# Altium footprint library myRLC.PcbLib: 39 footprints (part 1 of 3)
Each footprint in its own frame and in the unit in brackets; x right, y up, seen from the top. Pads: shape width x height; smd on the part's side, far side on the other; paste and mask are expansions set on the pad; w line width, h text height; cw(c..) or ccw(c..) is an arc to the next point about the centre after c.
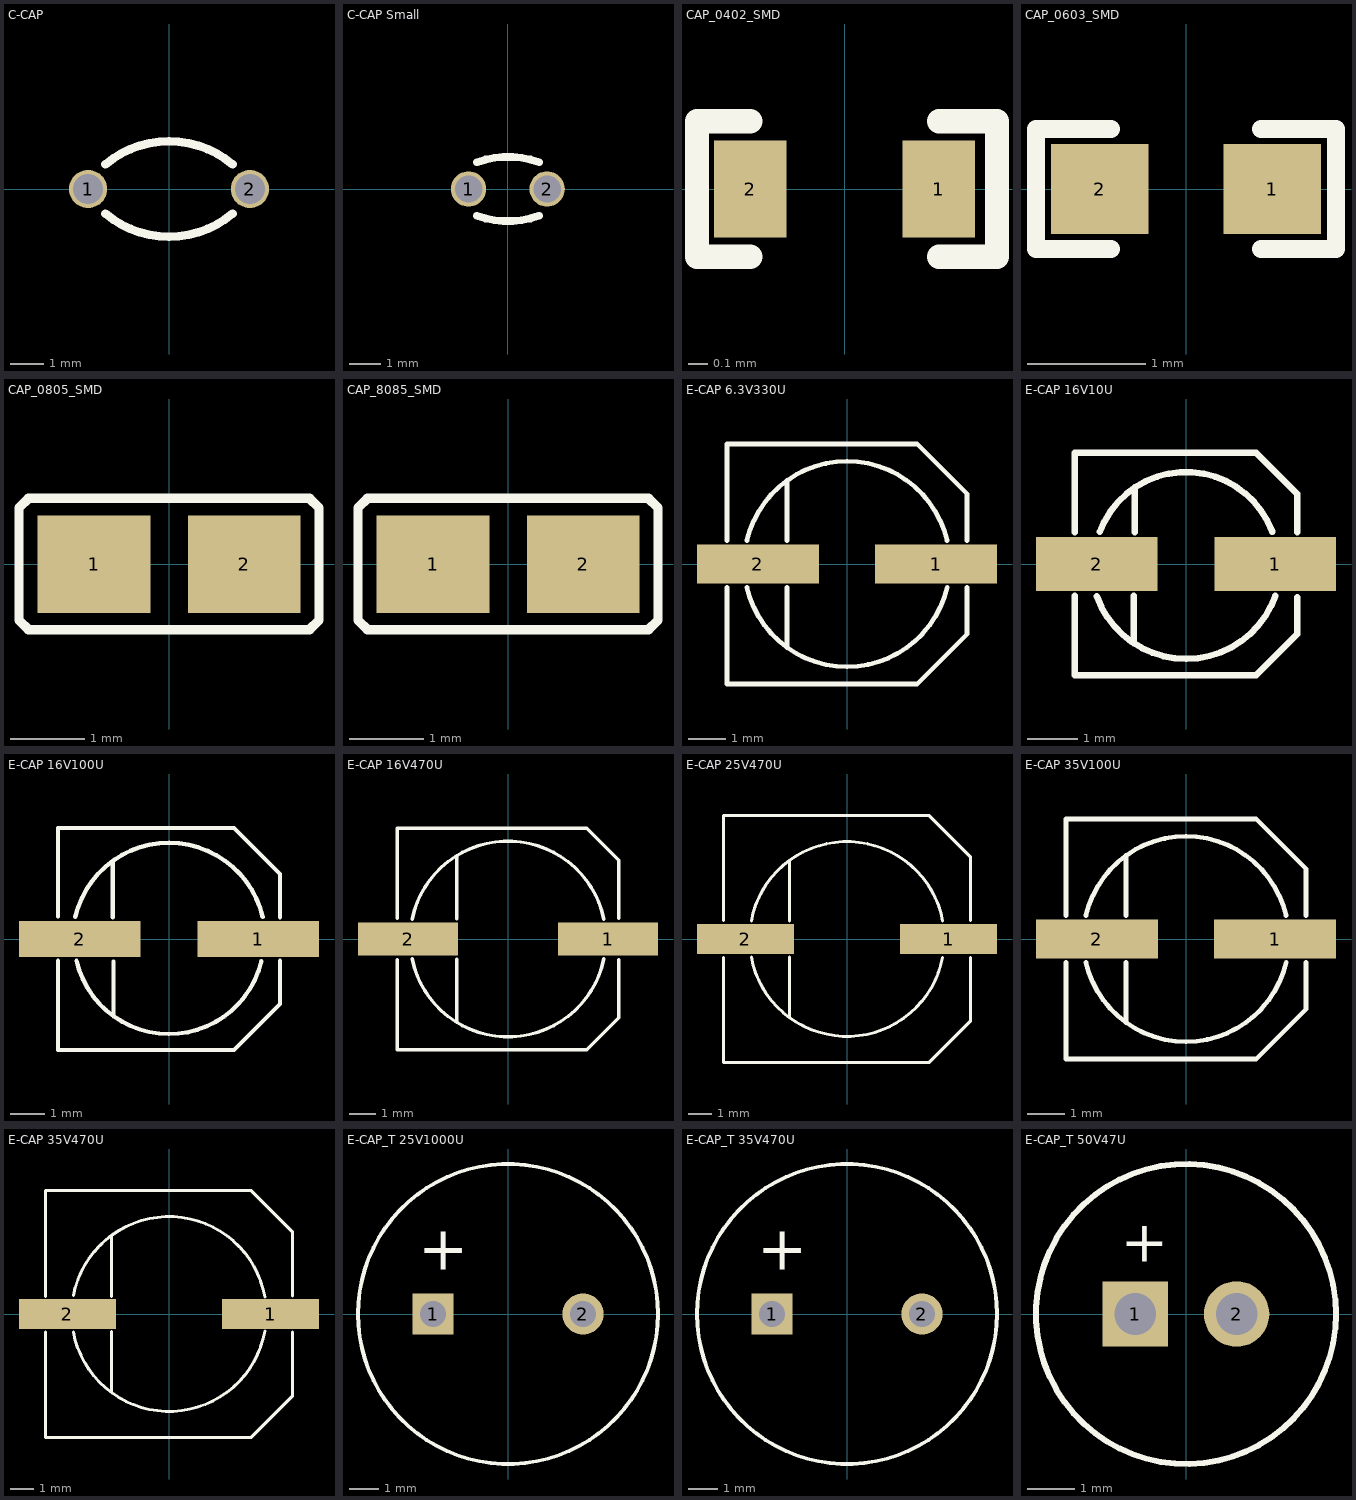
[diagram p0: the footprints below, top view; thin cyan lines are the x and y axes]

## C-CAP [mil]
height 200
pads (2):
  round 45 hole 35: 1(-95,0) 2(95,0)
Top Overlay:
  lines w10: -74.56,-28.86 ccw(c0,60) 74.56,-28.86 ; -74.56,28.86 cw(c0,-60) 74.56,28.86
3D body: height 200, standoff 0, extent -95,-56 95,56

## C-CAP Small [mil]
height 150
pads (2):
  round 45 hole 35: 1(-50,0) 2(50,0)
Top Overlay:
  lines w10: -39.67,-34 ccw(c0,75) 39.67,-34 ; -39.28,34 cw(c0.39,-75) 40.07,34
3D body: height 150, standoff 0, extent -54,-40 50,40

## CAP_0402_SMD [mil]
pads (2):
  rect 15x20 smd: 1(19.5,0) 2(-19.5,0)
Top Overlay:
  lines w5: -19.5,-14 -30.5,-14 -30.5,14 -19.5,14 ; 19.5,-14 31.5,-14 31.5,14 19.5,14
3D body: height 23.62, standoff 0, extent -30,-15 30,15

## CAP_0603_SMD [mil]
pads (2):
  rect 32.5x30 smd: 1(28.75,0) 2(-28.75,0)
Top Overlay:
  lines w6: -25,-20 -50,-20 -50,20 -25,20 ; 25,-20 50,-20 50,20 25,20
3D body: height 23.62, standoff 0, extent -50,-20 50,20

## CAP_0805_SMD [mil]
pads (2):
  rect 60x52 smd: 1(-40,0) 2(40,0)
Top Overlay:
  lines w5: -80,-30 -80,-15 -80,23 -80,30 -75,35 -48,35 41,35 75,35 80,30 80,16 80,-14 80,-30 75,-35 39,-35 29.25,-35 -30.25,-35 -40,-35 -75,-35 -80,-30
3D body: height 30, standoff 0, extent -80,-35 80,35

## CAP_8085_SMD [mil]
pads (2):
  rect 60x52 smd: 1(-40,0) 2(40,0)
Top Overlay:
  lines w5: -80,-30 -75,-35 -40,-35 -30.25,-35 29.25,-35 39,-35 75,-35 80,-30 80,-14 80,16 80,30 75,35 41,35 -48,35 -75,35 -80,30 -80,23 -80,-15 -80,-30
3D body: height 30, standoff 0, extent -80,-35 80,35

## E-CAP 6.3V330U [mil] "D6.3x7.8"
height 306
pads (2):
  rect 130x42 smd: 1(95,0) 2(-95,0)
Top Overlay:
  lines w5: -128,-25 -128,-128 75,-128 128,-75 128,-25 ; -128,25 -128,128 75,128 128,75 128,25 ; -106.75,-24.91 ccw(c0,0) 106.77,-24.85 ; -106.72,25.05 cw(c0,0) 106.72,25.06 ; -64,-89 -64,-25 ; -64,25 -64,89
3D body: height 306, standoff 0, extent -129,-129 128,129

## E-CAP 16V10U [mil] "D4x5"
height 214
pads (2):
  rect 95x42 smd: 1(70,0) 2(-70,0)
Top Overlay:
  lines w5: -87,-25 -87,-87 55,-87 87,-55 87,-26 ; -87,25 -87,87 55,87 87,55 87,25 ; -69.86,-25.4 ccw(c0,0) 70.05,-24.86 ; -67.56,25.22 cw(c0,0) 67.62,25.05 ; -41,-62 -41,-25 ; -40,25 -40,60
3D body: height 214, standoff 0, extent -88,-87 87,87

## E-CAP 16V100U [mil] "D6.3x5.4"
height 219
pads (2):
  rect 140x42 smd: 1(103,0) 2(-103,0)
Top Overlay:
  lines w5: -128,-25 -128,-128 75,-128 128,-75 128,-25 ; -128,26 -128,128 75,128 128,75 128,25 ; -108.04,25.56 cw(c0,0) 108.09,25.32 ; -106.72,-25.05 ccw(c0,0) 106.56,-25.72 ; -65,25 -65,90 ; -64,-89 -64,-26
3D body: height 219, standoff 0, extent -129,-129 128,129

## E-CAP 16V470U [mil] "D8x10.4"
height 406
pads (2):
  rect 150x50 smd: 1(150,0) 2(-150,0)
Top Overlay:
  lines w5: -166,-31 -166,-166 118,-166 166,-118 166,-31 ; -166,31 -166,166 118,166 166,118 166,31 ; -143.77,-29.75 ccw(c0,0) 143.77,-29.75 ; -143.77,29.75 cw(c0,0) 143.77,29.75 ; -77,-125 -77,-30 ; -77,30 -77,125
3D body: height 406, standoff 0, extent -167,-166 166,167

## E-CAP 25V470U [mil] "D9x10.4"
height 406
pads (2):
  rect 160x50 smd: 1(168,0) 2(-168,0)
Top Overlay:
  lines w5: -204,-31 -204,-204 136,-204 204,-136 204,-31 ; -204,31 -204,204 136,204 204,136 204,31 ; -158.25,-29.67 ccw(c0,0) 158.08,-30.6 ; -158.25,29.67 cw(c0,0) 158.25,29.67 ; -95,-130 -95,-30 ; -95,30 -95,130
3D body: height 406, standoff 0, extent -206,-205 204,207

## E-CAP 35V100U [mil] "D6.3x7.8"
height 306
pads (2):
  rect 130x42 smd: 1(95,0) 2(-95,0)
Top Overlay:
  lines w5: -128,-25 -128,-128 75,-128 128,-75 128,-25 ; -128,25 -128,128 75,128 128,75 128,25 ; -106.75,-24.91 ccw(c0,0) 106.77,-24.85 ; -106.72,25.05 cw(c0,0) 106.72,25.06 ; -64,-89 -64,-25 ; -64,25 -64,89
3D body: height 306, standoff 0, extent -129,-129 128,129

## E-CAP 35V470U [mil] "D10x10.5"
height 417
pads (2):
  rect 160x50 smd: 1(168,0) 2(-168,0)
Top Overlay:
  lines w5: -204,-30 -204,-204 136,-204 204,-136 204,-30 ; -204,29 -204,204 136,204 204,136 204,30 ; -158.23,-29.8 ccw(c0,0) 158.54,-28.1 ; -158.14,30.26 cw(c0,0) 158.54,28.1 ; -95,-130 -95,-29 ; -95,29 -95,130
3D body: height 417, standoff 0, extent -206,-205 204,207

## E-CAP_T 25V1000U [mil]
height 812
pads (2):
  rect 55x55 hole 35: 1(-100,0)
  round 55 hole 35: 2(100,0)
Top Overlay:
  circle w5: c0,0 r200
  text "+" at -120,40 h100
3D body: height 812, standoff 0, extent -201,-199 200,199

## E-CAP_T 35V470U [mil]
height 690
pads (2):
  rect 55x55 hole 35: 1(-100,0)
  round 55 hole 35: 2(100,0)
Top Overlay:
  circle w5: c0,0 r200
  text "+" at -120,40 h100
3D body: height 690, standoff 0, extent -201,-199 200,199

## E-CAP_T 50V47U [mil]
height 456
pads (2):
  rect 55x55 hole 35: 1(-42.5,0)
  round 55 hole 35: 2(42.5,0)
Top Overlay:
  circle w5: c0,0 r126
  text "+" at -55,32 h60
3D body: height 456, standoff 0, extent -125,-126 125,125